# EAGLE library part SP3232X (library SP3232)
TSSOP16 package for SP3232EEY-L/TR. It could be used with other Exar SP3232 parts with the same package, but it's up to you to check for pinout and spacing. Datasheet <https://www.exar.com/ds/sp3222e_sp3232e.pdf> is available through https://www.exar.com/ds/sp3222e_sp3232e.pdf
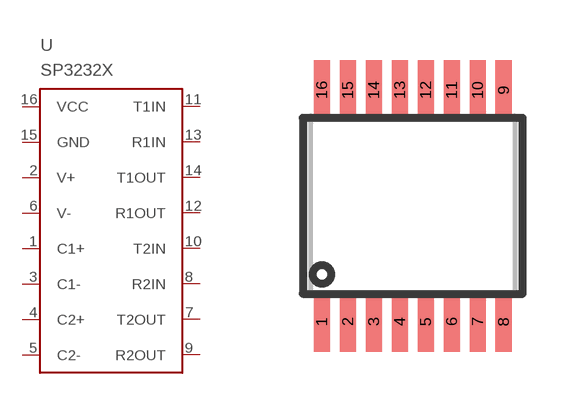
[diagram p0: symbol with the pads of TSSOP16; footprint TSSOP16]

Designator prefix U

## SP3232XTSSOP  [TSSOP16]
1  C1+
2  V+  pwr
3  C1-
4  C2+
5  C2-
6  V-  pwr
7  T2OUT  out
8  R2IN  in
9  R2OUT  out
10  T2IN  in
11  T1IN  in
12  R1OUT  out
13  R1IN  in
14  T1OUT  out
15  GND  pwr
16  VCC  pwr

## Footprint TSSOP16 (pad centres in mm)
TSSOP16 footprint for Exar SP3232EEY-L/TR. It could be used for other Exar SP32X parts with TSSOP 16 packaging, but it's up to you to check for pinout and spacing. Datasheet <https://www.exar.com/ds/sp3222e_sp3232e.pdf> is available at: https://www.exar.com/ds/sp3222e_sp3232e.pdf
smd 0.4 x 1.5: 1 -2.275,-2.9; 2 -1.625,-2.9; 3 -0.975,-2.9; 4 -0.325,-2.9; 5 0.325,-2.9; 6 0.975,-2.9; 7 1.625,-2.9; 8 2.275,-2.9; 9 2.275,2.9; 10 1.625,2.9; 11 0.975,2.9; 12 0.325,2.9; 13 -0.325,2.9; 14 -0.975,2.9; 15 -1.625,2.9; 16 -2.275,2.9